# Altium footprint library PcbLib1.PcbLib: 13 footprints
Each footprint in its own frame and in the unit in brackets; x right, y up, seen from the top. Pads: shape width x height; smd on the part's side, far side on the other; paste and mask are expansions set on the pad; w line width, h text height; cw(c..) or ccw(c..) is an arc to the next point about the centre after c.
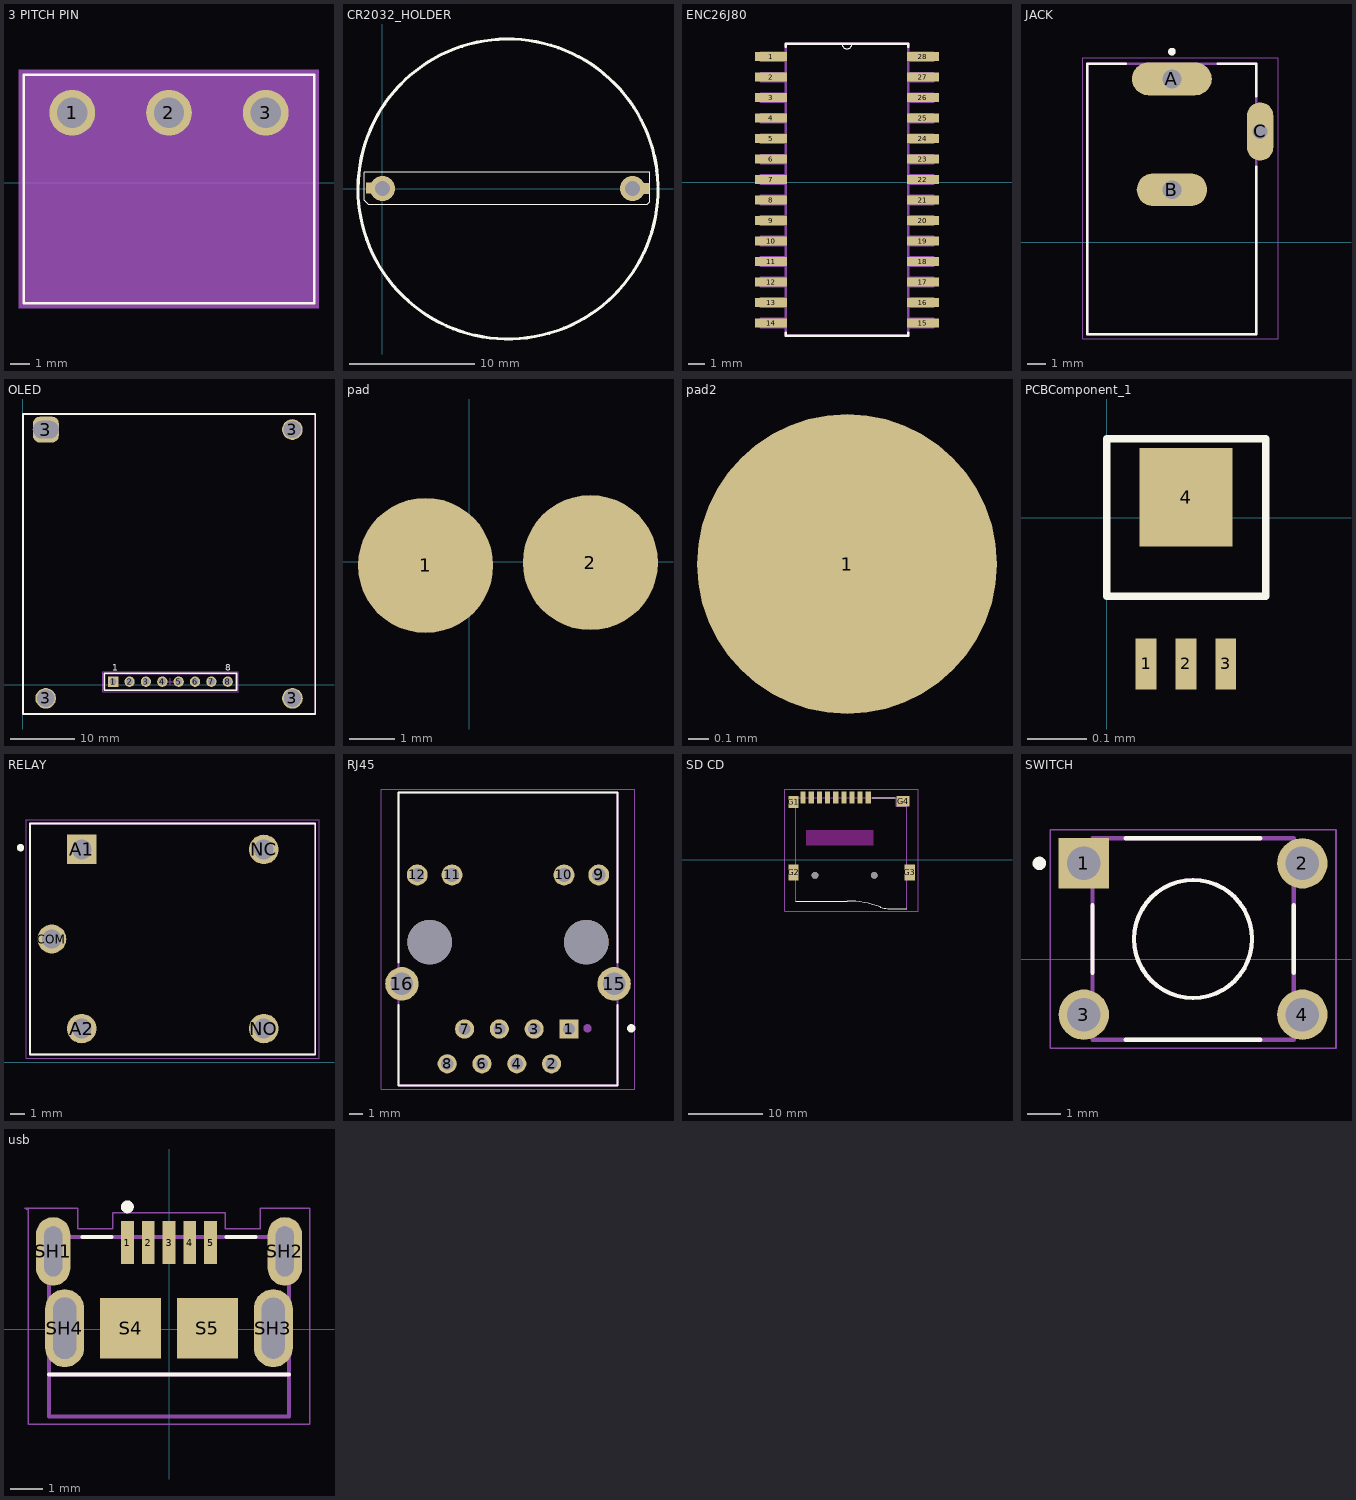
[diagram p0: the footprints below, top view; thin cyan lines are the x and y axes]

## 3 PITCH PIN [mm]
pads (3):
  round 2.4 hole 1.6: 1(21.209,3.683) 2(26.289,3.683) 3(31.369,3.683)
Top Overlay:
  lines w0.127: 18.669,-6.317 18.669,5.683 33.909,5.683 33.909,-6.317 18.669,-6.317
Mechanical 13:
  text "1" at 20.539,0.683 h1.27
Board Shape:
  region: 34.159,-6.567 18.419,-6.567 18.419,5.933 34.159,5.933

## CR2032_HOLDER [mil]
pads (2):
  rect 19.68x35.43 smd: +v(-41,2) -v(831,0.5)
via 0,0 diameter 78.74 hole 47.24
via 787.4,0 diameter 78.74 hole 47.24
Top Overlay:
  lines w2: -56.5,-37.5 -56.5,51.5 -55.5,52.5 842.5,52.5 842.5,-41.5 835,-49 -45,-49 -56.5,-37.5
  lines w10: 868.14,10.43 ccw(c395.85,-1.38) 868.25,4.62

## ENC26J80 [mil]
pads (28):
  rect 78x22 smd: 1(1178,306) 2(1178,256) 3(1178,206) 4(1178,156) 5(1178,106) 6(1178,56) 7(1178,6) 8(1178,-44) 9(1178,-94) 10(1178,-144) 11(1178,-194) 12(1178,-244) 13(1178,-294) 14(1178,-344) 15(1548,-344) 16(1548,-294) 17(1548,-244) 18(1548,-194) 19(1548,-144) 20(1548,-94) 21(1548,-44) 22(1548,6) 23(1548,56) 24(1548,106) 25(1548,156) 26(1548,206) 27(1548,256) 28(1548,306)
Top Overlay:
  lines w0: 1351,337 ccw(c1363,337) 1375,337
  lines w6: 1214,-368 1214,-375 1512,-375 1512,-368 ; 1214,330 1214,337 1351,337 1375,337 1512,337 1512,330
Mechanical 13:
  lines w0: 1351,337 ccw(c1363,337) 1375,337
  lines w6: 1153,-354 1153,-334 1214,-334 1214,-354 1153,-354 ; 1153,-304 1153,-284 1214,-284 1214,-304 1153,-304 ; 1153,-254 1153,-234 1214,-234 1214,-254 1153,-254 ; 1153,-204 1153,-184 1214,-184 1214,-204 1153,-204 ; 1153,-154 1153,-134 1214,-134 1214,-154 1153,-154 ; 1153,-104 1153,-84 1214,-84 1214,-104 1153,-104 ; 1153,-54 1153,-34 1214,-34 1214,-54 1153,-54 ; 1153,-4 1153,16 1214,16 1214,-4 1153,-4 ; 1153,46 1153,66 1214,66 1214,46 1153,46 ; 1153,96 1153,116 1214,116 1214,96 1153,96 ; 1153,146 1153,166 1214,166 1214,146 1153,146 ; 1153,196 1153,216 1214,216 1214,196 1153,196 ; 1153,246 1153,266 1214,266 1214,246 1153,246 ; 1153,296 1153,316 1214,316 1214,296 1153,296 ; 1214,-375 1512,-375 1512,337 1375,337 1351,337 1214,337 1214,-375 ; 1512,-354 1512,-334 1573,-334 1573,-354 1512,-354 ; 1512,-304 1512,-284 1573,-284 1573,-304 1512,-304 ; 1512,-254 1512,-234 1573,-234 1573,-254 1512,-254 ; 1512,-204 1512,-184 1573,-184 1573,-204 1512,-204 ; 1512,-154 1512,-134 1573,-134 1573,-154 1512,-154 ; 1512,-104 1512,-84 1573,-84 1573,-104 1512,-104 ; 1512,-54 1512,-34 1573,-34 1573,-54 1512,-54 ; 1512,-4 1512,16 1573,16 1573,-4 1512,-4 ; 1512,46 1512,66 1573,66 1573,46 1512,46 ; 1512,96 1512,116 1573,116 1573,96 1512,96 ; 1512,146 1512,166 1573,166 1573,146 1512,146 ; 1512,196 1512,216 1573,216 1573,196 1512,196 ; 1512,246 1512,266 1573,266 1573,246 1512,246 ; 1512,296 1512,316 1573,316 1573,296 1512,296

## JACK [mm]
pads (3):
  oval 4.25x1.75 hole 1 square mask+0.05: A(181.102,8.694)
  oval 3.75x1.75 hole 1 square mask+0.05: B(181.102,2.794)
  oval 1.4x3.1 hole 0.8 square mask+0.05: C(185.802,5.894)
Top Overlay:
  circle w0.2: c181.102,10.144 r0.1
  lines w0.127: 178.652,9.494 176.602,9.494 176.602,-4.906 185.602,-4.906 185.602,4.024 ; 183.552,9.494 185.602,9.494 185.602,7.764
Mechanical 13:
  circle w0.2: c181.102,10.144 r0.1
  lines w0.127: 176.602,-4.906 185.602,-4.906 185.602,9.494 176.602,9.494 176.602,-4.906
Board Shape:
  lines w0.05: 176.352,-5.156 176.352,9.819 186.752,9.819 186.752,-5.156 176.352,-5.156
3D body "step_temp.STEP": height 10.8, standoff -4.8, extent 176.602,-4.906 185.962,9.494

## OLED [mm]
pads (12):
  rect 1.6x1.6 hole 1.1: 1(14.021,0.508)
  round 1.6 hole 1.1: 2(16.561,0.508) 3(19.101,0.508) 4(21.641,0.508) 5(24.181,0.508) 6(26.721,0.508) 7(29.261,0.508) 8(31.801,0.508)
  round 3.2 / inner round 3 / far side round 3 hole 2.7: 3(3.543,-2.07) 3(41.834,39.649) 3(41.846,-2.083)
  rrect50% 4x4 / inner round 3 / far side round 3 hole 2.7 slot 4 at 0 deg: 3(3.569,39.637)
Top Overlay:
  lines w0.2: 12.601,-0.837 33.221,-0.837 33.221,1.853 12.601,1.853 12.601,-0.837
  lines w0.254: 0.013,-2.197 0.013,-4.496 ccw(c0.025,-4.496) 0.025,-4.508 ; 3.429,-4.508 0.025,-4.508 ; 41.961,-4.508 45.364,-4.508 ; 44.145,-4.508 0.025,-4.508 ; 45.364,-4.502 45.364,-2.203 45.364,42.062 0.025,42.062 ccw(c0.025,42.05) 0.013,42.05 0.013,-2.984 cw(c0.013,-2.997) 0.025,-2.997 0.025,-4.508
  text "1" at 13.901,2.208 h1.02
  text "8" at 31.421,2.208 h1.02
Keep-Out Layer:
  lines w0.254: 45.212,42.062 0.025,42.062 0.025,-4.508 45.364,-4.508 45.364,41.91
Mechanical 13:
  lines w0.1: 12.751,-0.762 12.751,1.778 33.071,1.778 33.071,-0.762 12.751,-0.762
Board Shape:
  lines w0.05: 22.411,0.508 23.411,0.508 ; 22.911,0.008 22.911,1.008 ; 12.401,-1.037 12.401,2.053 33.421,2.053 33.421,-1.037 12.401,-1.037
3D body "Nokia LCD (1).stp": height 8.5, standoff -3.5, extent 1.165,-2.972 43.666,43.028
3D body "61300811121.stp": height 8.57, standoff -2.97, extent 12.573,-0.648 32.893,1.892

## pad [mil]
pads (2):
  round 118.11 smd: 1(-38,-3) 2(106,-0.5)

## pad2 [mil]
pads (1):
  round 59.06 smd mask+4: 1(7843.5,-6352)

## PCBComponent_1 [mil]
pads (4):
  rect 1.4x3.4 smd mask+0: 1(2.64,-9.75) 2(5.29,-9.75) 3(7.95,-9.75)
  rect 6.22x6.55 smd mask+0: 4(5.3,1.35)
Top Overlay:
  lines w0.5: 0,-5.25 10.6,-5.25 10.6,5.25 0,5.25 0,-5.25

## RELAY [mm]
pads (5):
  rect 1.98x1.98 / inner round 1.98 / far side rect 1.98x1.98 hole 1.32: A1(44.967,14.268)
  round 1.98 hole 1.32: A2(44.967,2.268) NC(57.167,14.268) NO(57.167,2.268)
  round 1.935 hole 1.29: COM(42.967,8.268)
Top Overlay:
  circle w0.3: c40.867,14.387 r0.1
  lines w0.127: 41.517,0.518 41.517,16.018 60.617,16.018 60.617,0.518 41.517,0.518
Mechanical 13:
  lines w0.127: 41.517,0.518 41.517,16.018 60.617,16.018 60.617,0.518 41.517,0.518
Board Shape:
  lines w0.05: 41.267,0.268 41.267,16.268 60.867,16.268 60.867,0.268 41.267,0.268
3D body "step_temp.STEP": height 15.8, standoff -3, extent 41.467,0.468 60.667,16.068

## RJ45 [mm]
pads (16):
  rect 1.398x1.398 / inner round 1.398 / far side rect 1.398x1.398 hole 0.89: 1(720.758,-112.966)
  round 1.398 hole 0.89: 2(719.488,-115.506) 3(718.218,-112.966) 4(716.948,-115.506) 5(715.678,-112.966) 6(714.408,-115.506) 7(713.138,-112.966) 8(711.868,-115.506)
  round 1.53 hole 1.02: 9(722.933,-101.716) 10(720.393,-101.716) 11(712.223,-101.716) 12(709.683,-101.716)
  round 2.445 hole 1.63: 15(724.053,-109.666) 16(708.563,-109.666)
  round 3.25 hole 3.25 unplated: ""(710.593,-106.616) ""(722.023,-106.616)
Top Overlay:
  circle w0.3: c725.308,-112.916 r0.15
  lines w0.127: 708.308,-111.216 708.308,-117.096 724.308,-117.096 724.308,-111.216 ; 708.308,-108.116 708.308,-95.696 724.308,-95.696 724.308,-108.116
Mechanical 13:
  circle w0.3: c722.108,-112.916 r0.15
  lines w0.127: 708.308,-117.096 724.308,-117.096 724.308,-95.696 708.308,-95.696 708.308,-117.096
Board Shape:
  lines w0.05: 707.058,-117.346 725.558,-117.346 725.558,-95.446 707.058,-95.446 707.058,-117.346
3D body "step_temp.STEP": height 13.5, standoff -3.05, extent 708.288,-113.966 724.328,-92.666

## SD CD [mm]
pads (15):
  rect 0.7x1.6 smd: 1(29.428,8.378) 2(28.328,8.378) 3(27.228,8.378) 4(26.128,8.378) 5(25.028,8.378) 6(23.928,8.378) 7(22.828,8.378) 8(21.728,8.378) 9(20.628,8.378)
  rect 1.4x1.6 smd: G1(19.328,7.778)
  rect 1.4x2.2 smd: G2(19.328,-1.722) G3(35.028,-1.722)
  rect 1.8x1.4 smd: G4(34.128,7.878)
  round 0.9 hole 0.9 unplated: ""(22.228,-2.122) ""(30.228,-2.122)
Top Overlay:
  lines w0.127: 19.621,-5.592 26.555,-5.592 cw(c26.555,-18.292) 31.106,-6.436 ; 29.978,8.378 33.078,8.378 ; 31.069,-6.421 ccw(c32.076,-3.799) 32.076,-6.608 34.607,-6.608
Keep-Out Layer:
  region: 30.08,1.975 21.075,1.975 21.075,3.976 30.08,3.976
Mechanical 13:
  lines w0.127: 19.621,-5.592 19.621,8.378 33.21,8.378 33.21,7.235 34.607,7.235 34.607,-6.608
Board Shape:
  lines w0.127: 18.158,-6.952 36.158,-6.952 36.158,9.548 18.158,9.548 18.158,-6.952

## SWITCH [mil]
pads (4):
  rect 58.98x58.98 / inner round 58.98 / far side rect 58.98x58.98 hole 38.98: 1(596,112.5)
  round 58.98 hole 38.98: 2(851.91,112.5) 3(596,-64.67) 4(851.91,-64.67)
Top Overlay:
  circle w7.87: c543.95,112.5 r3.94
  circle w5: c723.95,23.92 r69.09
  lines w5: 606.04,-15.45 606.04,63.29 ; 645.21,-94 802.69,-94 ; 645.21,141.83 802.69,141.83 ; 841.87,-15.45 841.87,63.29
Mechanical 13:
  circle w5: c723.95,23.92 r69.09
  lines w5: 606.04,-94 841.87,-94 841.87,141.83 606.04,141.83 606.04,-94
Board Shape:
  lines w1.97: 556.63,-104.04 891.28,-104.04 891.28,151.87 556.63,151.87 556.63,-104.04

## usb [mm]
pads (11):
  rect 0.4x1.35 smd: 1(-1.3,2.713) 2(-0.65,2.713) 3(0,2.713) 4(0.65,2.713) 5(1.3,2.713)
  rect 1.9x1.9 smd: S4(-1.2,0.038) S5(1.2,0.038)
  oval 1.068x2.136 hole 0.56 slot 1.56 at 90 deg: SH1(-3.615,2.438) SH2(3.615,2.438)
  oval 1.218x2.436 hole 0.71 slot 1.91 at 90 deg: SH3(3.255,0.038)
  oval 1.218x2.436 hole 0.71 slot 1.92 at 90 deg: SH4(-3.255,0.038)
Top Overlay:
  circle w0.2: c-1.3,3.825 r0.1
  lines w0.127: -3.75,-1.412 3.75,-1.412 ; -2.7,2.888 -1.8,2.888 ; 1.8,2.888 2.7,2.888
Mechanical 13:
  lines w0.127: -3.75,-1.412 3.75,-1.412 ; -3.75,-1.412 -3.75,-2.712 3.75,-2.712 3.75,-1.412 ; -3.75,-1.412 -3.75,2.888 3.75,2.888 3.75,-1.412
  text "PCB EDGE" at 4.029,-1.399 h0.41
Board Shape:
  lines w0.05: -4.5,3.788 -2.85,3.788 -2.85,3.138 -1.75,3.138 -1.75,3.638 1.75,3.638 1.75,3.138 2.85,3.138 2.85,3.788 4.4,3.788 4.4,-2.962 -4.4,-2.962 -4.4,3.763 ; -4.475,3.788 ccw(c-4.425,3.813) -4.4,3.763